# Altium footprint library 1602A.PcbLib: 11 footprints
Each footprint in its own frame and in the unit in brackets; x right, y up, seen from the top. Pads: shape width x height; smd on the part's side, far side on the other; paste and mask are expansions set on the pad; w line width, h text height; cw(c..) or ccw(c..) is an arc to the next point about the centre after c.
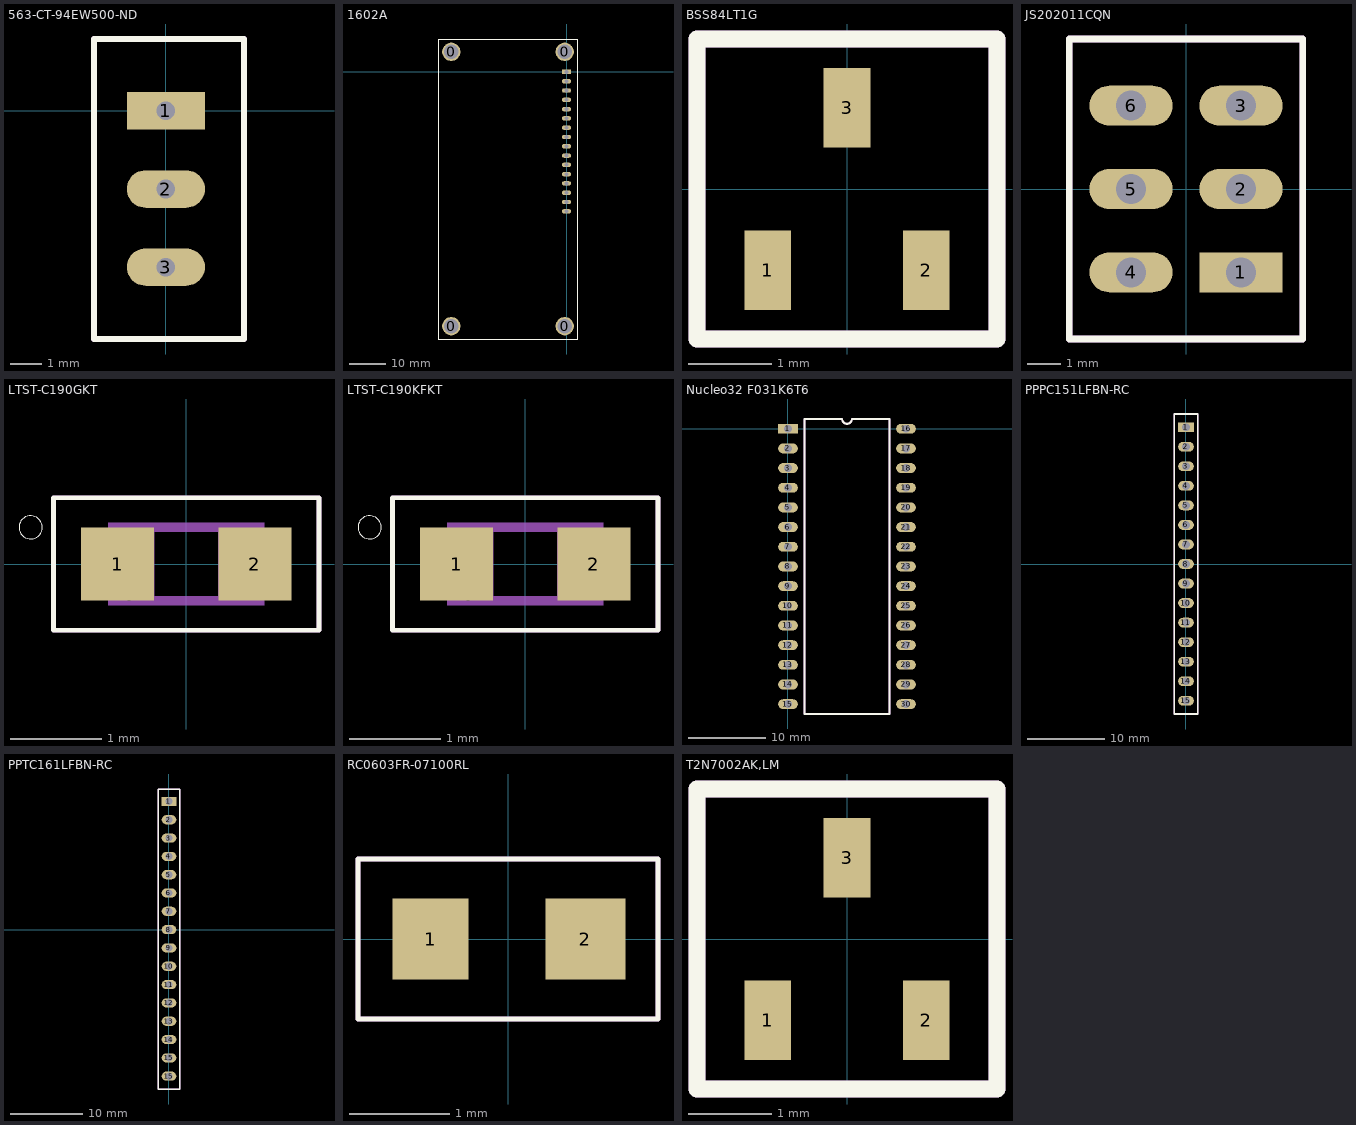
[diagram p0: the footprints below, top view; thin cyan lines are the x and y axes]

## 563-CT-94EW500-ND [mm]
pads (3):
  rect 2.5x1.2 hole 0.6: 1(0,0)
  oval 2.5x1.2 hole 0.6: 2(0,-2.5) 3(0,-5)
Top Overlay:
  lines w0.2: -2.3,-7.3 2.5,-7.3 2.5,2.3 -2.3,2.3 -2.3,-7.3
Top Assembly:
  lines w0.2: -2.3,-7.3 2.5,-7.3 2.5,2.3 -2.3,2.3 -2.3,-7.3
3D body "CT-94EW50O(500).stp": height 11.1, standoff -7.6, extent -2.3,-7.3 2.5,2.3

## 1602A [mm]
pads (20):
  round 5 hole 4: 0(-31.5,-69.5) 0(-31.5,5.5) 0(-0.5,-69.5) 0(-0.5,5.5)
  rect 2.5x1.2 hole 1.016: 1(0,0)
  oval 2.5x1.2 hole 1.016: 2(0,-2.54) 3(0,-5.08) 4(0,-7.62) 5(0,-10.16) 6(0,-12.7) 7(0,-15.24) 8(0,-17.78) 9(0,-20.32) 10(0,-22.86) 11(0,-25.4) 12(0,-27.94) 13(0,-30.48) 14(0,-33.02) 15(0,-35.56) 16(0,-38.1)
Top Overlay:
  lines w0.2: -35,-73 -35,9 3,9 3,-73 -35,-73
Top Assembly:
  lines w0.2: -35,-73 3,-73 3,9 -35,9 -35,-73
3D body "PPTC161LFBN-RC.STEP": height 8.51, standoff -3.2, extent -1.27,-39.624 1.27,1.524
3D body "LCD Display 1602A  (white on blue) v3.step": height 17, standoff 6.1, extent -35.5,-73.618 1,7.5

## BSS84LT1G [mm]
pads (3):
  rect 0.56x0.95 smd: 1(-0.95,-0.975) 2(0.95,-0.975) 3(0,0.975)
Top Overlay:
  lines w0.2: -1.8,-1.8 1.3,-1.8 1.8,-1.8 1.8,1.8 -0.65,1.8 -1.287,1.8 -1.362,1.8 -1.8,1.8 -1.8,-1.8
Top Assembly:
  lines w0.2: -1.8,-1.8 1.8,-1.8 1.8,1.8 -1.8,1.8 -1.8,-1.8
3D body "SOT23.step": height 0.95, standoff 0, extent -1.45,-1.2 1.45,1.2

## JS202011CQN [mm]
pads (6):
  rect 2.5x1.2 hole 0.9: 1(1.65,-2.5)
  oval 2.5x1.2 hole 0.9: 2(1.65,0) 3(1.65,2.5) 4(-1.65,-2.5) 5(-1.65,0) 6(-1.65,2.5)
Top Overlay:
  lines w0.2: -3.5,-4.5 -3.5,4.5 0,4.5 1.8,4.5 3.2,4.5 3.5,4.5 3.5,-4.5 -3.5,-4.5
Top Assembly:
  lines w0.2: -3.5,-4.5 -3.5,4.5 0,4.5 1.8,4.5 3.2,4.5 3.5,4.5 3.5,-4.5 -3.5,-4.5
3D body "JS202011CQN.stp": height 5.22, standoff -3.28, extent -1.8,-4.5 1.8,4.5

## LTST-C190GKT [mm]
pads (2):
  rect 0.8x0.8 smd: 1(-0.75,0) 2(0.75,0)
Top Overlay:
  circle w0: c-1.7,0.4 r0.127
  lines w0.05: -1.45,-0.725 1.45,-0.725 1.45,0.725 -1.45,0.725 -1.45,-0.725
Mechanical 1:
  circle w0.051: c-0.625,-0.35 r0.075
  region: -0.7,-0.451 -0.851,-0.451 -0.851,-0.25 -0.7,-0.25
  region: -0.55,-0.276 -0.601,-0.276 -0.601,-0.225 -0.55,-0.225
  region: -0.35,-0.45 -0.725,-0.45 -0.725,-0.4 -0.35,-0.4
  region: -0.551,0.25 -0.85,0.25 -0.85,0.451 -0.551,0.451
  region: -0.351,-0.451 -0.576,-0.451 -0.576,0.451 -0.351,0.451
  region: 0.851,-0.45 0.35,-0.45 0.35,-0.251 0.851,-0.251
  region: 0.85,0.25 0.35,0.25 0.35,0.45 0.85,0.45
  region: 0.575,-0.275 0.35,-0.275 0.35,0.275 0.575,0.275
  region: 0.65,-0.275 0.55,-0.275 0.55,-0.175 0.65,-0.175
  region: 0.65,0.175 0.55,0.175 0.55,0.275 0.65,0.275
  lines w0.051: 0.825,-0.275 cw(c0.825,0) 0.825,0.275
  lines w0.102: -0.8,-0.3 ccw(c-0.826,0) -0.8,0.3 ; -0.375,-0.4 0.35,-0.4 ; -0.35,0.4 0.35,0.4
Top Assembly:
  lines w0.05: -1.45,-0.725 1.45,-0.725 1.45,0.725 0.725,0.725 -0.725,0.725 -1.45,0.725 -1.45,-0.725
3D body "step_temp.STEP": height 0.8, standoff 0, extent -0.8,-0.4 0.8,0.4

## LTST-C190KFKT [mm]
pads (2):
  rect 0.8x0.8 smd: 1(-0.75,0) 2(0.75,0)
Top Overlay:
  circle w0: c-1.7,0.4 r0.127
  lines w0.05: -1.45,-0.725 1.45,-0.725 1.45,0.725 -1.45,0.725 -1.45,-0.725
Mechanical 1:
  circle w0.051: c-0.625,-0.35 r0.075
  region: -0.7,-0.451 -0.851,-0.451 -0.851,-0.25 -0.7,-0.25
  region: -0.55,-0.275 -0.6,-0.275 -0.6,-0.225 -0.55,-0.225
  region: -0.35,-0.451 -0.726,-0.451 -0.726,-0.4 -0.35,-0.4
  region: -0.55,0.25 -0.85,0.25 -0.85,0.45 -0.55,0.45
  region: -0.351,-0.451 -0.576,-0.451 -0.576,0.451 -0.351,0.451
  region: 0.85,-0.45 0.35,-0.45 0.35,-0.25 0.85,-0.25
  region: 0.85,0.25 0.35,0.25 0.35,0.45 0.85,0.45
  region: 0.575,-0.275 0.35,-0.275 0.35,0.275 0.575,0.275
  region: 0.651,-0.275 0.55,-0.275 0.55,-0.176 0.651,-0.176
  region: 0.65,0.175 0.55,0.175 0.55,0.275 0.65,0.275
  lines w0.051: 0.825,-0.275 cw(c0.825,0) 0.825,0.275
  lines w0.102: -0.8,-0.3 ccw(c-0.826,0) -0.8,0.3 ; -0.375,-0.4 0.35,-0.4 ; -0.35,0.4 0.35,0.4
Top Assembly:
  lines w0.05: -1.45,-0.725 1.45,-0.725 1.45,0.725 -1.45,0.725 -1.45,-0.725
3D body "step_temp.STEP": height 0.8, standoff 0, extent -0.8,-0.4 0.8,0.4

## Nucleo32 F031K6T6 [mil]
pads (30):
  rect 100x50 hole 40: 1(0,0)
  oval 100x50 hole 40: 2(0,-100) 3(0,-200) 4(0,-300) 5(0,-400) 6(0,-500) 7(0,-600) 8(0,-700) 9(0,-800) 10(0,-900) 11(0,-1000) 12(0,-1100) 13(0,-1200) 14(0,-1300) 15(0,-1400) 16(600,0) 17(600,-100) 18(600,-200) 19(600,-300) 20(600,-400) 21(600,-500) 22(600,-600) 23(600,-700) 24(600,-800) 25(600,-900) 26(600,-1000) 27(600,-1100) 28(600,-1200) 29(600,-1300) 30(600,-1400)
Top Overlay:
  lines w10: 85,-1450 85,50 275,50 ccw(c300,50) 325,50 515,50 515,-1450 85,-1450
Top Assembly:
  lines w10: 85,-1450 515,-1450 515,50 325,50 cw(c300,50) 275,50 85,50 85,-1450
3D body "NUCLEO-F031K6.STEP": height 688.98, standoff 118.11, extent -65.12,-1657.83 665,389.51
3D body "PPPC151LFBN-RC.STEP": height 335, standoff -126, extent 550,-1460 650,60
3D body "PPPC151LFBN-RC.STEP": height 335, standoff -126, extent -50,-1460 50,60

## PPPC151LFBN-RC [mil]
pads (15):
  rect 80x50 hole 40: 1(0,700)
  oval 80x50 hole 40: 2(0,600) 3(0,500) 4(0,400) 5(0,300) 6(0,200) 7(0,100) 8(0,0) 9(0,-100) 10(0,-200) 11(0,-300) 12(0,-400) 13(0,-500) 14(0,-600) 15(0,-700)
Top Overlay:
  lines w7.87: -59.05,-767.72 59.05,-767.72 59.06,767.72 -59.06,767.72 -59.05,-767.72
Top Assembly:
  lines w7.87: -59.05,-767.72 59.06,-767.72 59.06,767.72 -59.06,767.72 -59.05,-767.72
3D body "PPPC151LFBN-RC.STEP": height 335, standoff -126, extent -50,-760 50,760

## PPTC161LFBN-RC [mil]
pads (16):
  rect 80x50 hole 40: 1(0,700)
  oval 80x50 hole 40: 2(0,600) 3(0,500) 4(0,400) 5(0,300) 6(0,200) 7(0,100) 8(0,0) 9(0,-100) 10(0,-200) 11(0,-300) 12(0,-400) 13(0,-500) 14(0,-600) 15(0,-800) 15(0,-700)
Top Overlay:
  lines w7.87: -59.05,-870.08 -59.06,767.72 59.06,767.72 59.06,-870.08 -59.05,-870.08
Top Assembly:
  lines w7.87: -59.05,-870.08 -59.06,767.72 59.06,767.72 59.06,-870.08 -59.05,-870.08
3D body "PPTC161LFBN-RC.STEP": height 335, standoff -126, extent -50,-860 50,760

## RC0603FR-07100RL [mil]
pads (2):
  rect 30x32 smd paste+0 mask+3.94: 1(-30.5,0)
  rect 31.5x32 smd paste+0 mask+3.94: 2(30.5,0)
Top Overlay:
  lines w1.97: -59.06,-31.5 -59.06,31.5 59.06,31.5 59.06,27.56 59.06,-3.94 59.06,-31.5 -59.06,-31.5
Top Assembly:
  lines w1.97: -59.06,-31.5 59.06,-31.5 59.06,31.5 -59.06,31.5 -59.06,-31.5
3D body "RC0603N_YAG.step": height 27.99, standoff 0, extent -31.5,-15.98 31.5,15.98

## T2N7002AK,LM [mm]
pads (3):
  rect 0.56x0.95 smd: 1(-0.95,-0.975) 2(0.95,-0.975) 3(0,0.975)
Top Overlay:
  lines w0.2: -1.8,-1.8 1.3,-1.8 1.8,-1.8 1.8,1.8 -0.65,1.8 -1.287,1.8 -1.362,1.8 -1.8,1.8 -1.8,-1.8
Top Assembly:
  lines w0.2: -1.8,-1.8 1.8,-1.8 1.8,1.8 -1.8,1.8 -1.8,-1.8
3D body "SOT23.step": height 0.95, standoff 0, extent -1.45,-1.2 1.45,1.2